# Altium footprint library CN_BAT_CLIP_AA_KEYSTONE_2462.PcbLib: 1 footprints
Each footprint in its own frame and in the unit in brackets; x right, y up, seen from the top. Pads: shape width x height; smd on the part's side, far side on the other; paste and mask are expansions set on the pad; w line width, h text height; cw(c..) or ccw(c..) is an arc to the next point about the centre after c.
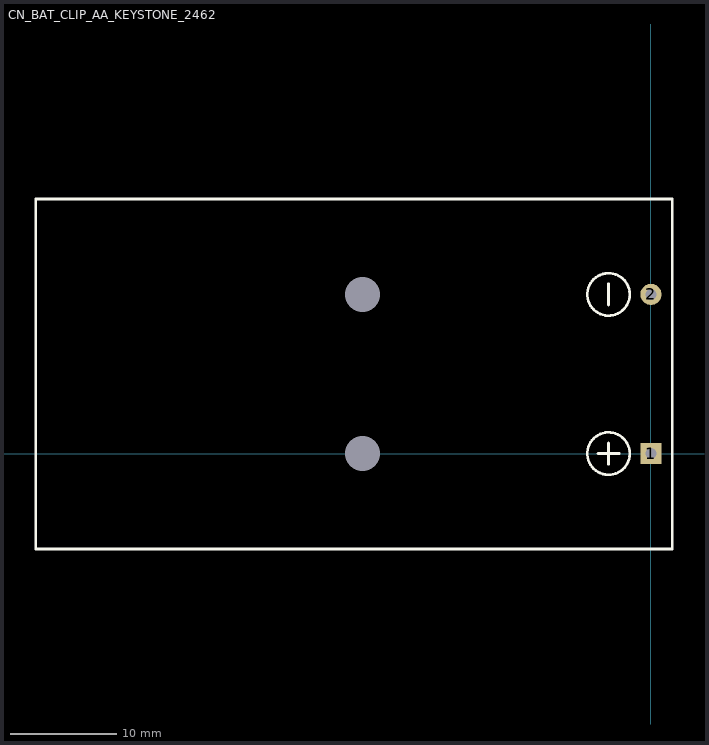
[diagram p0: the footprint, top view; thin cyan lines are the x and y axes]

## CN_BAT_CLIP_AA_KEYSTONE_2462 [mm]
pads (4):
  rect 2x2 hole 1: 1(0,0)
  round 2 hole 1: 2(0,15)
  round 0 hole 3.3 unplated: 3(-27.18,0) 4(-27.18,15)
Top Overlay:
  circle w0.254: c-4,15 r2
  circle w0.254: c-4,0 r2
  lines w0.254: -5,0 -3,0 ; -4,-1 -4,1 ; -4,14 -4,16 ; -58,-9 -58,24 2,24 2,-9 -58,-9
3D body: height 16, standoff -13, extent -57.556,-8.966 2.158,23.952